# Altium schematic symbol library BUCK_LMR50410-Q1.Schlib: 1 symbol
Pins are listed as number, name and electrical type; pins without a type are passive.

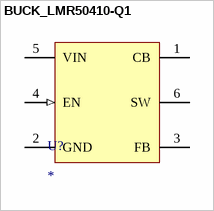
[diagram p0: symbol BUCK_LMR50410-Q1]

## BUCK_LMR50410-Q1
designator U?
pins: 1 CB, 2 GND, 3 FB, 4 EN (in), 5 VIN, 6 SW